# EAGLE library part S10B-PHDSS (library con-jst-phd)
JST PHD series header 2.00mm pitch disconnectable crimp style connectors, horizontal (side entry type), 10 pins
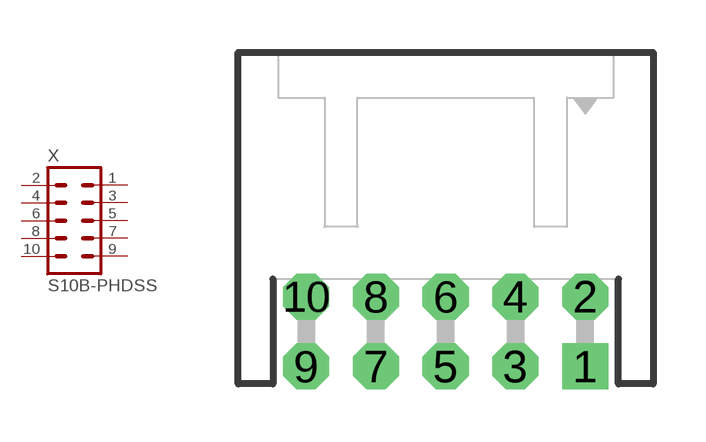
[diagram p15: symbol with the pads of S10B-PHDSS; footprint S10B-PHDSS]

Designator prefix X

## S10B-PHDSS  [S10B-PHDSS]
1  1  pas
2  2  pas
3  3  pas
4  4  pas
5  5  pas
6  6  pas
7  7  pas
8  8  pas
9  9  pas
10  10  pas

## S10B-PHDSS-B  [S10B-PHDSS]
Pads as for S10B-PHDSS

## Footprint S10B-PHDSS (pad centres in mm)
JST PHD series header 2.00mm pitch disconnectable crimp style connectors, through-hole horizontal (top entry type), 10 pins
drill 0.7 pad 1.321 square: 1 4,-1
drill 0.7 pad 1.321 octagon: 2 4,1; 3 2,-1; 4 2,1; 5 0,-1; 6 0,1; 7 -2,-1; 8 -2,1; 9 -4,-1; 10 -4,1